# Altium schematic symbol library Schlib2.SchLib: 13 symbols
Pins are listed as number, name and electrical type; pins without a type are passive.

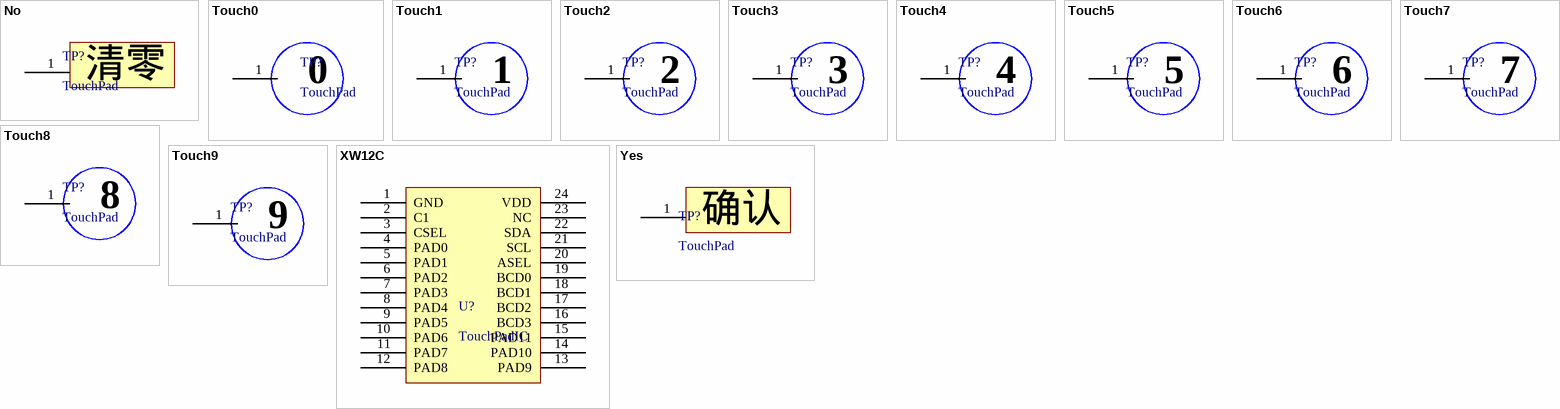
[diagram p0: symbols No to Yes]

## No
designator TP?, comment TouchPad
footprint CANCEL
pins: 1
text: 清零

## Touch0
designator TP?, comment TouchPad
footprint KEY0
pins: 1
text: 0

## Touch1
designator TP?, comment TouchPad
footprint Key1
pins: 1

## Touch2
designator TP?, comment TouchPad
footprint Key2
pins: 1
text: 2

## Touch3
designator TP?, comment TouchPad
footprint Key3
pins: 1
text: 3

## Touch4
designator TP?, comment TouchPad
footprint KEY4
pins: 1
text: 4

## Touch5
designator TP?, comment TouchPad
footprint KEY5
pins: 1
text: 5

## Touch6
designator TP?, comment TouchPad
footprint KEY6
pins: 1
text: 6

## Touch7
designator TP?, comment TouchPad
footprint KEY7
pins: 1
text: 7

## Touch8
designator TP?, comment TouchPad
footprint KEY8
pins: 1
text: 8

## Touch9
designator TP?, comment TouchPad
footprint KEY9
pins: 1
text: 9

## XW12C
designator U?, comment TouchPadIC
footprint SOP127P1030X264-24N (SOP, 24-Leads, Body 15.40x7.50mm, Pitch 1.27mm, IPC Medium Density)
pins: 1 GND, 2 C1, 3 CSEL, 4 PAD0, 5 PAD1, 6 PAD2, 7 PAD3, 8 PAD4, 9 PAD5, 10 PAD6, 11 PAD7, 12 PAD8, 13 PAD9, 14 PAD10, 15 PAD11, 16 BCD3, 17 BCD2, 18 BCD1, 19 BCD0, 20 ASEL, 21 SCL, 22 SDA, 23 NC, 24 VDD

## Yes
designator TP?, comment TouchPad
footprint confirm
pins: 1
text: 确认